# Altium footprint library EISI.PcbLib: 695 footprints (part 27 of 44)
Each footprint in its own frame and in the unit in brackets; x right, y up, seen from the top. Pads: shape width x height; smd on the part's side, far side on the other; paste and mask are expansions set on the pad; w line width, h text height; cw(c..) or ccw(c..) is an arc to the next point about the centre after c.
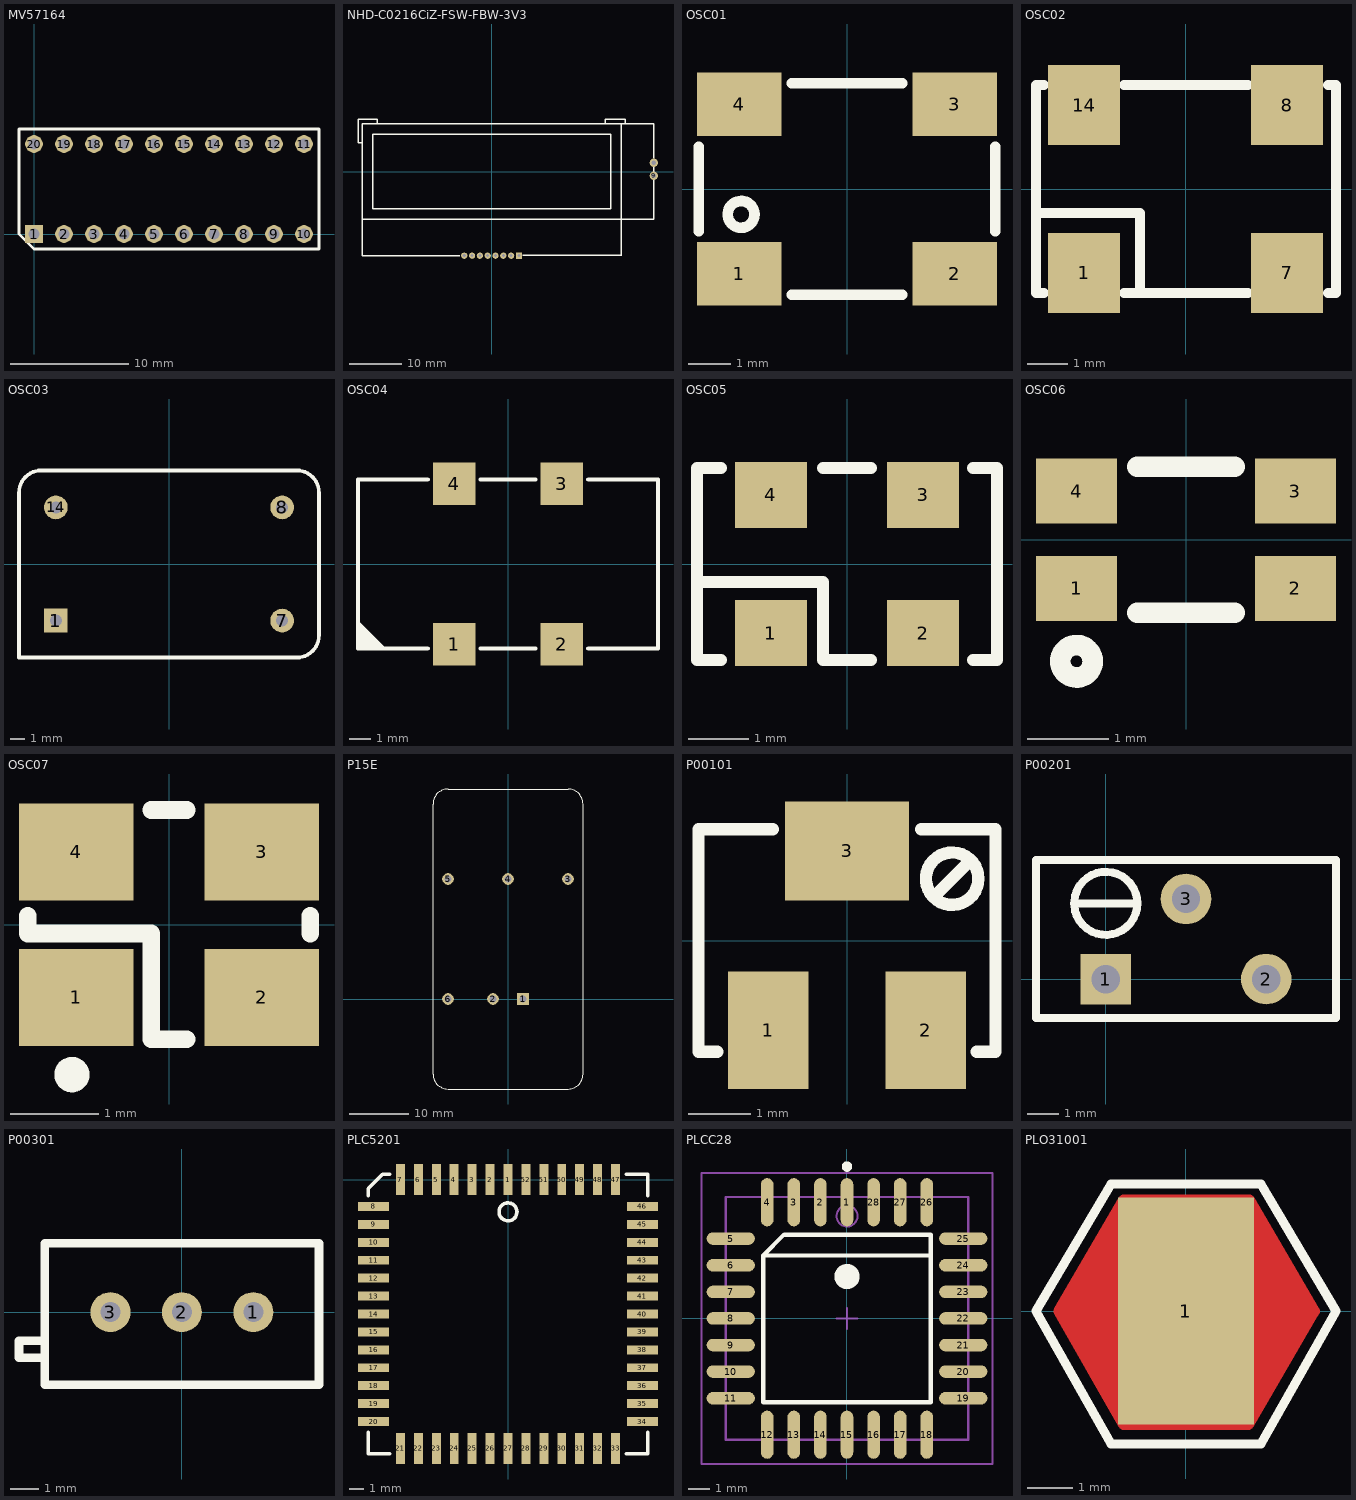
[diagram p26: the footprints below, top view; thin cyan lines are the x and y axes]

## MV57164 [mm] "Bargraphe display"
height 8
pads (20):
  rect 1.5x1.5 hole 0.9: 1(0,0)
  round 1.5 hole 0.9: 2(2.54,0) 3(5.08,0) 4(7.62,0) 5(10.16,0) 6(12.7,0) 7(15.24,0) 8(17.78,0) 9(20.32,0) 10(22.86,0) 11(22.86,7.62) 12(20.32,7.62) 13(17.78,7.62) 14(15.24,7.62) 15(12.7,7.62) 16(10.16,7.62) 17(7.62,7.62) 18(5.08,7.62) 19(2.54,7.62) 20(0,7.62)
TopOverlay:
  lines w0.25: -1.27,0 0,-1.27 24.13,-1.27 24.13,8.89 -1.27,8.89 -1.27,0

## NHD-C0216CiZ-FSW-FBW-3V3 [mm] "LCD 3.3V I2C"
height 5.5
pads (10):
  rect 1.2x1.2 hole 0.6: 1(5.25,-16.15)
  round 1.2 hole 0.6: 2(3.75,-16.15) 3(2.25,-16.15) 4(0.75,-16.15) 5(-0.75,-16.15) 6(-2.25,-16.15) 7(-3.75,-16.15) 8(-5.25,-16.15)
  round 1.6 hole 0.9: 9(31.15,-0.81) 10(31.15,1.69)
TopOverlay:
  lines w0.254: -24.85,-9.15 24.85,-9.15 31.15,-9.15 31.15,-1.65 ; -24.85,5.5 -24.9,5.55 -25.65,5.55 -25.65,10.05 -22,10.05 -22,9.15 ; -6.15,-16.15 -24.85,-16.15 -24.85,9.15 24.85,9.15 ; 6,-16.1 24.8,-16.1 ; 21.85,9.15 21.85,10.05 25.65,10.05 25.65,9.2 25.6,9.15 ; 24.85,-16.15 24.85,9.15 ; 31.15,0 31.15,0.85 ; 31.15,2.55 31.15,9.15 24.85,9.15 ; -22.85,-7.15 22.85,-7.15 22.85,7.15 -22.85,7.15 -22.85,-7.15

## OSC01 [mm] "Oscillateur SMD"
pads (4):
  rect 2x1.5 smd: 1(-2.54,-2) 2(2.54,-2) 3(2.54,2) 4(-2.54,2)
TopOverlay:
  circle w0.25: c-2.5,-0.6 r0.316
  lines w0.25: -3.5,-1 -3.5,1 ; -1.3,-2.5 1.3,-2.5 ; -1.3,2.5 1.3,2.5 ; 3.5,-1 3.5,1

## OSC02 [mm] "Oscillateur SMD"
pads (4):
  rect 1.8x2 smd: 1(-2.54,-2.1) 7(2.54,-2.1) 8(2.54,2.1) 14(-2.54,2.1)
TopOverlay:
  lines w0.254: -3.74,-0.6 -1.14,-0.6 -1.14,-2.6 ; -3.54,-2.6 -3.74,-2.6 -3.74,2.6 -3.54,2.6 ; -1.54,-2.6 1.56,-2.6 ; -1.54,2.6 1.56,2.6 ; 3.56,-2.6 3.76,-2.6 3.76,2.6 3.56,2.6

## OSC03 [mm] "OCXOWT Microcrystal 20.14 x 12.52mm"
height 7.8
pads (4):
  rect 1.6x1.6 hole 0.8: 1(-7.62,-3.81)
  round 1.6 hole 0.8: 7(7.62,-3.81) 8(7.62,3.81) 14(-7.62,3.81)
TopOverlay:
  lines w0.254: -10.1,-6.3 -10.1,4.8 cw(c-8.6,4.8) -8.6,6.3 8.6,6.3 cw(c8.6,4.8) 10.1,4.8 10.1,-4.8 cw(c8.6,-4.8) 8.6,-6.3 -10.1,-6.3

## OSC04 [mm] "Microcrytal MCSOV"
height 3.8
pads (4):
  rect 2x2 smd: 1(-2.55,-3.8) 2(2.55,-3.8) 3(2.55,3.8) 4(-2.55,3.8)
TopOverlay:
  lines w0.2: -7.1,-3.6 -7,-3.6 -6.6,-4 ; -7.1,-3.1 -7.1,-3.2 -6.3,-4 ; -7.1,-2.9 -7.1,-3 -6.1,-4 ; -7.1,-2.8 -5.9,-4 ; -6.8,-4 -7.1,-3.7 ; -6.5,-4 -7.1,-3.4 -7.1,-3.3 ; -6.4,-4 -7.1,-3.3 ; -3.8,-4 -7.1,-4 -7.1,4 -3.8,4 ; -1.3,-4 1.3,-4 ; -1.3,4 1.3,4 ; 3.8,-4 7.1,-4 7.1,4 3.8,4 ; -7.1,-3.7 -7.1,-3.7 ; -7.1,-3.3 -7.1,-3.3

## OSC05 [mm] "Osc 4-SMD, No Lead (DFN, LCC)  5x3.2mm"
height 0.85
pads (4):
  rect 1.2x1.1 smd: 1(-1.27,-1.15) 2(1.27,-1.15) 3(1.27,1.15) 4(-1.27,1.15)
TopOverlay:
  lines w0.2: -2.5,-0.3 -0.4,-0.3 -0.4,-1.6 0.4,-1.6 ; -2.1,-1.6 -2.5,-1.6 -2.5,1.6 -2.1,1.6 ; -0.4,1.6 0.4,1.6 ; 2.1,-1.6 2.5,-1.6 2.5,1.6 2.1,1.6

## OSC06 [mm] "OV-7604-C/ Oscilloquartz 3.2mm x 1.5mm"
height 1
pads (4):
  rect 1x0.8 smd: 1(-1.35,-0.6) 2(1.35,-0.6) 3(1.35,0.6) 4(-1.35,0.6)
TopOverlay:
  circle w0.254: c-1.35,-1.5 r0.2
  lines w0.254: -0.6,-0.9 0.6,-0.9 ; -0.6,0.9 0.6,0.9

## OSC07 [mm] "4-SMD, No Lead (DFN, LCC)   3.20mm x 2.50mm)"
height 1
pads (4):
  rect 1.3x1.1 smd: 1(-1.05,-0.825) 2(1.05,-0.825) 3(1.05,0.825) 4(-1.05,0.825)
TopOverlay:
  circle w0.2: c-1.1,-1.7 r0.1
  lines w0.2: -1.6,0.1 -1.6,-0.1 -0.2,-0.1 -0.2,-1.3 0.2,-1.3 ; -0.2,1.3 0.2,1.3 ; 1.6,-0.1 1.6,0.1

## P15E [mm] "15W DC/DC converter PE15E"
height 10.16
pads (6):
  rect 2x2 hole 1.2: 1(2.54,0)
  round 2 hole 1.2: 2(-2.54,0) 3(10.16,20.32) 4(0,20.32) 5(-10.16,20.32) 6(-10.16,0)
TopOverlay:
  lines w0.2: -12.7,-12.7 ccw(c-10.16,-12.7) -10.16,-15.24 10.16,-15.24 ccw(c10.16,-12.7) 12.7,-12.7 12.7,33.02 ccw(c10.16,33.02) 10.16,35.56 -10.16,35.56 ccw(c-10.16,33.02) -12.7,33.02 -12.7,-12.7

## P00101 [mm] "potentiomètre 3224W"
height 5.3
pads (3):
  rect 1.3x1.9 smd: 1(-1.27,-1.45) 2(1.27,-1.45)
  rect 2x1.6 smd: 3(0,1.45)
TopOverlay:
  circle w0.2: c1.7,1 r0.424
  lines w0.2: -2.1,-1.8 -2.4,-1.8 -2.4,1.8 -1.2,1.8 ; 1.2,1.8 2.4,1.8 2.4,-1.8 2.1,-1.8 ; 1.4,0.7 2,1.3 ; 2,1.3 2,1.3

## P00201 [mm] "Potentiomètre vertical"
height 10
pads (3):
  rect 1.6x1.6 hole 0.9: 1(0,0)
  round 1.6 hole 0.9: 2(5.08,0) 3(2.54,2.54)
TopOverlay:
  circle w0.254: c0,2.4 r1
  lines w0.254: -1,2.4 1,2.4 ; -2.21,-1.23 7.29,-1.23 7.29,3.77 -2.21,3.77 -2.21,-1.23

## P00301 [mm] "Pot 67x"
height 10.4
pads (3):
  round 1.4 hole 0.7: 1(2.5,0) 2(0,0) 3(-2.5,0)
TopOverlay:
  lines w0.3: -4.8,-1.6 -5.7,-1.6 -5.7,-1 -4.8,-1 ; -4.8,-2.54 4.8,-2.54 4.8,2.41 -4.8,2.41 -4.8,-2.54

## PLC5201 [mil]
pads (52):
  rect 25x87 smd: 1(0,0) 2(-50,0) 3(-100,0) 4(-151,0) 5(-200,0) 6(-250,0) 7(-300,0) 21(-300,-750) 22(-250,-750) 23(-200,-750) 24(-150,-750) 25(-100,-750) 26(-50,-750) 27(0,-750) 28(50,-750) 29(100,-750) 30(150,-750) 31(200,-750) 32(250,-750) 33(300,-750) 47(300,0) 48(250,0) 49(200,0) 50(150,0) 51(100,0) 52(50,0)
  rect 87x25 smd: 8(-375,-75) 9(-375,-125) 10(-375,-175) 11(-375,-225) 12(-375,-275) 13(-375,-325) 14(-375,-375) 15(-375,-425) 16(-375,-475) 17(-375,-525) 18(-375,-575) 19(-375,-625) 20(-375,-675) 34(375,-675) 35(375,-625) 36(375,-575) 37(375,-525) 38(375,-475) 39(375,-425) 40(375,-375) 41(375,-325) 42(375,-275) 43(375,-225) 44(375,-175) 45(375,-125) 46(375,-75)
TopOverlay:
  circle w10: c0,-90 r25
  lines w10: -390,-705 -390,-765 -330,-765 ; -390,-45 -390,-25 -350,15 -330,15 ; 330,-765 390,-765 390,-705 ; 330,15 390,15 390,-45

## PLCC28 [mm] "28-Pin Leaded Chip Carrier 1.27 mm Pitch, IPC Medium Density"
height 4.57
pads (28):
  oval 0.6x2.3 smd: 1(0,5.55) 2(-1.27,5.55) 3(-2.54,5.55) 4(-3.81,5.55) 12(-3.81,-5.55) 13(-2.54,-5.55) 14(-1.27,-5.55) 15(0,-5.55) 16(1.27,-5.55) 17(2.54,-5.55) 18(3.81,-5.55) 26(3.81,5.55) 27(2.54,5.55) 28(1.27,5.55)
  oval 2.3x0.6 smd: 5(-5.55,3.81) 6(-5.55,2.54) 7(-5.55,1.27) 8(-5.55,0) 9(-5.55,-1.27) 10(-5.55,-2.54) 11(-5.55,-3.81) 19(5.55,-3.81) 20(5.55,-2.54) 21(5.55,-1.27) 22(5.55,0) 23(5.55,1.27) 24(5.55,2.54) 25(5.55,3.81)
TopOverlay:
  circle w0.6: c0,2 r0.3
  circle w0.25: c0,7.25 r0.125
  lines w0.2: 4,3 -4,3 ; -4,3 -4,-4 4,-4 4,4 -3,4 -4,3
Mechanical13:
  circle w0.1: c0,4.89 r0.5
  lines w0.1: -5.79,-5.79 5.79,-5.79 5.79,5.79 -5.79,5.79 -5.79,-5.79
Mechanical15:
  lines w0.1: -0.5,0 0.5,0 ; 0,-0.5 0,0.5 ; -6.95,-6.95 6.95,-6.95 6.95,6.95 -6.95,6.95 -6.95,-6.95
3D body: height 4.57, standoff 0, extent -5.79,-5.79 5.79,5.79

## PLO31001 [mm]
pads (1):
  rect 3x5 smd: 1(0,0)
TopLayer:
  lines w0.254: -2.794,0 -1.372,2.438 1.397,2.438 2.819,0 1.372,-2.489 -1.372,-2.489 -2.794,0
  lines w0.762: -1.499,-0.686 -1.499,0.61 ; -1.321,-1.803 -2.286,0.025 -1.295,1.905 ; 1.194,1.88 2.362,0 1.245,-1.88 ; 1.549,-1.219 1.651,0.711
TopOverlay:
  lines w0.2: -3.302,0 -1.651,-2.921 ; -3.302,0 -1.651,2.794 ; -3.302,0 -1.651,2.794 ; -1.651,-2.921 1.651,-2.921 ; -1.651,-2.921 1.651,-2.921 ; -1.651,2.794 1.651,2.794 ; 1.651,-2.921 3.302,0 ; 1.651,2.794 3.302,0 ; 1.651,2.794 3.302,0
TopSolder:
  lines w0.254: -2.946,0 -1.473,-2.616 1.473,-2.616 2.997,0 1.499,2.54 -1.524,2.54 -2.946,0
  lines w1.27: -1.143,-1.854 -2.235,0.025 -1.092,1.93 ; 1.092,-0.61 1.295,0.305 ; 1.118,1.88 2.286,0.051 1.194,-1.905